# Altium schematic symbol library HarwinConnectors.SchLib: 25 symbols
Pins are listed as number, name and electrical type; pins without a type are passive.

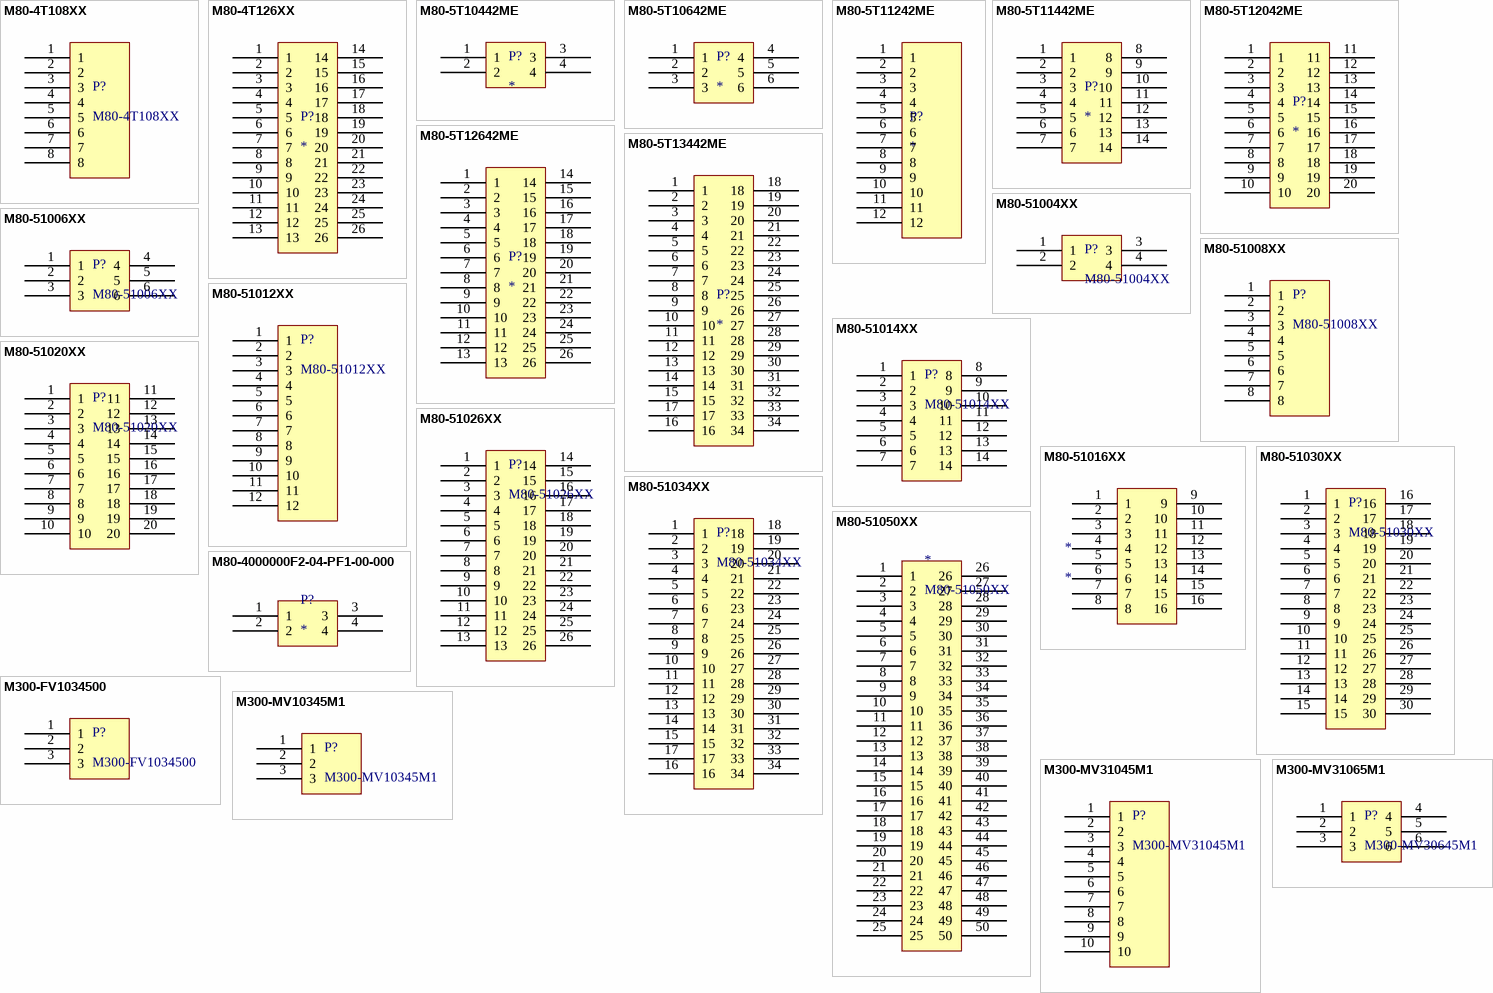
[diagram p0: symbols M80-4T108XX to M300-MV31065M1]

## M80-4T108XX
designator P?
pins: 1, 2, 3, 4, 5, 6, 7, 8

## M80-4T126XX
designator P?
footprint M80-4T126XX
pins: 1, 2, 3, 4, 5, 6, 7, 8, 9, 10, 11, 12, 13, 14, 15, 16, 17, 18, 19, 20, 21, 22, 23, 24, 25, 26

## M80-5T10442ME
designator P?
QTR TURN 2+2 M Vertical 3MM PCB Connector
footprint M80-51004XX (Double Row, 3mm PC Tail connector with 3.5mm board mount jackscrews - 14 contacts (7+7).  Gold finish on contact area, Tin finish on termination. Slotted nuts provided for assembly to panel mount stud.  2.00mm Pitch High-Reliability Datamate connector system.)
pins: 1, 2, 3, 4

## M80-5T10642ME
designator P?
QTR TURN 3+3 WAY M VERT 3MM PCT 101LOK
footprint M80-51006XX (Double Row, 3mm PC Tail connector with 3.5mm board mount jackscrews - 14 contacts (7+7).  Gold finish on contact area, Tin finish on termination. Slotted nuts provided for assembly to panel mount stud.  2.00mm Pitch High-Reliability Datamate connector system.)
pins: 1, 2, 3, 4, 5, 6

## M80-5T11242ME
designator P?
QTR TURN 6 + 6 M VERT 3MM PCB Connector
footprint M80-51012XX (Double Row, 3mm PC Tail connector with 3.5mm board mount jackscrews - 14 contacts (7+7).  Gold finish on contact area, Tin finish on termination. Slotted nuts provided for assembly to panel mount stud.  2.00mm Pitch High-Reliability Datamate connector system.)
pins: 1, 2, 3, 4, 5, 6, 7, 8, 9, 10, 11, 12

## M80-5T11442ME
designator P?
QTR TURN 7 + 7 M VERT 3MM PCB Connector
footprint M80-51014XX (Double Row, 3mm PC Tail connector with 3.5mm board mount jackscrews - 14 contacts (7+7).  Gold finish on contact area, Tin finish on termination. Slotted nuts provided for assembly to panel mount stud.  2.00mm Pitch High-Reliability Datamate connector system.)
pins: 1, 2, 3, 4, 5, 6, 7, 8, 9, 10, 11, 12, 13, 14

## M80-5T12042ME
designator P?
QTR TURN 10+10 M VERT 3MM PCT 101LOK BM
footprint M80-51020XX (Double Row, 3mm PC Tail connector with 3.5mm board mount jackscrews - 14 contacts (7+7).  Gold finish on contact area, Tin finish on termination. Slotted nuts provided for assembly to panel mount stud.  2.00mm Pitch High-Reliability Datamate connector system.)
pins: 1, 2, 3, 4, 5, 6, 7, 8, 9, 10, 11, 12, 13, 14, 15, 16, 17, 18, 19, 20

## M80-5T12642ME
designator P?
QTR TURN 13+13 M VERT 3MM PCT 101LOK BM
footprint M80-51026XX (Double Row, 3mm PC Tail connector with 3.5mm board mount jackscrews - 14 contacts (7+7).  Gold finish on contact area, Tin finish on termination. Slotted nuts provided for assembly to panel mount stud.  2.00mm Pitch High-Reliability Datamate connector system.)
pins: 1, 2, 3, 4, 5, 6, 7, 8, 9, 10, 11, 12, 13, 14, 15, 16, 17, 18, 19, 20, 21, 22, 23, 24, 25, 26

## M80-5T13442ME
designator P?
QTR TURN 17+17 M VERT 3MM PCT 101LOK BM
footprint M80-51034XX (Double Row, 3mm PC Tail connector with 3.5mm board mount jackscrews - 14 contacts (7+7).  Gold finish on contact area, Tin finish on termination. Slotted nuts provided for assembly to panel mount stud.  2.00mm Pitch High-Reliability Datamate connector system.)
pins: 1, 2, 3, 4, 5, 6, 7, 8, 9, 10, 11, 12, 13, 14, 15, 16, 17, 18, 19, 20, 21, 22, 23, 24, 25, 26, 27, 28, 29, 30, 31, 32, 33, 34

## M80-51004XX
designator P?
footprint M80-51004XX (Double Row, 3mm PC Tail connector with 3.5mm board mount jackscrews - 14 contacts (7+7).  Gold finish on contact area, Tin finish on termination. Slotted nuts provided for assembly to panel mount stud.  2.00mm Pitch High-Reliability Datamate connector system.)
pins: 1, 2, 3, 4

## M80-51006XX
designator P?
footprint M80-51006XX (Double Row, 3mm PC Tail connector with 3.5mm board mount jackscrews - 14 contacts (7+7).  Gold finish on contact area, Tin finish on termination. Slotted nuts provided for assembly to panel mount stud.  2.00mm Pitch High-Reliability Datamate connector system.)
pins: 1, 2, 3, 4, 5, 6

## M80-51008XX
designator P?
footprint M80-51008XX (Double Row, 3mm PC Tail connector with 3.5mm board mount jackscrews - 14 contacts (7+7).  Gold finish on contact area, Tin finish on termination. Slotted nuts provided for assembly to panel mount stud.  2.00mm Pitch High-Reliability Datamate connector system.)
pins: 1, 2, 3, 4, 5, 6, 7, 8

## M80-51012XX
designator P?
footprint M80-51012XX (Double Row, 3mm PC Tail connector with 3.5mm board mount jackscrews - 14 contacts (7+7).  Gold finish on contact area, Tin finish on termination. Slotted nuts provided for assembly to panel mount stud.  2.00mm Pitch High-Reliability Datamate connector system.)
pins: 1, 2, 3, 4, 5, 6, 7, 8, 9, 10, 11, 12

## M80-51014XX
designator P?
footprint M80-51014XX (Double Row, 3mm PC Tail connector with 3.5mm board mount jackscrews - 14 contacts (7+7).  Gold finish on contact area, Tin finish on termination. Slotted nuts provided for assembly to panel mount stud.  2.00mm Pitch High-Reliability Datamate connector system.)
pins: 1, 2, 3, 4, 5, 6, 7, 8, 9, 10, 11, 12, 13, 14

## M80-51016XX
designator *
footprint M80-51016XX (Double Row, 3mm PC Tail connector with 3.5mm board mount jackscrews - 14 contacts (7+7).  Gold finish on contact area, Tin finish on termination. Slotted nuts provided for assembly to panel mount stud.  2.00mm Pitch High-Reliability Datamate connector system.)
pins: 1, 2, 3, 4, 5, 6, 7, 8, 9, 10, 11, 12, 13, 14, 15, 16

## M80-51020XX
designator P?
footprint M80-51020XX (Double Row, 3mm PC Tail connector with 3.5mm board mount jackscrews - 14 contacts (7+7).  Gold finish on contact area, Tin finish on termination. Slotted nuts provided for assembly to panel mount stud.  2.00mm Pitch High-Reliability Datamate connector system.)
pins: 1, 2, 3, 4, 5, 6, 7, 8, 9, 10, 11, 12, 13, 14, 15, 16, 17, 18, 19, 20

## M80-51026XX
designator P?
footprint M80-51026XX (Double Row, 3mm PC Tail connector with 3.5mm board mount jackscrews - 14 contacts (7+7).  Gold finish on contact area, Tin finish on termination. Slotted nuts provided for assembly to panel mount stud.  2.00mm Pitch High-Reliability Datamate connector system.)
pins: 1, 2, 3, 4, 5, 6, 7, 8, 9, 10, 11, 12, 13, 14, 15, 16, 17, 18, 19, 20, 21, 22, 23, 24, 25, 26

## M80-51030XX
designator P?
footprint M80-51030XX (Double Row, 3mm PC Tail connector with 3.5mm board mount jackscrews - 14 contacts (7+7).  Gold finish on contact area, Tin finish on termination. Slotted nuts provided for assembly to panel mount stud.  2.00mm Pitch High-Reliability Datamate connector system.)
pins: 1, 2, 3, 4, 5, 6, 7, 8, 9, 10, 11, 12, 13, 14, 15, 16, 17, 18, 19, 20, 21, 22, 23, 24, 25, 26, 27, 28, 29, 30

## M80-51034XX
designator P?
footprint M80-51034XX (Double Row, 3mm PC Tail connector with 3.5mm board mount jackscrews - 14 contacts (7+7).  Gold finish on contact area, Tin finish on termination. Slotted nuts provided for assembly to panel mount stud.  2.00mm Pitch High-Reliability Datamate connector system.)
pins: 1, 2, 3, 4, 5, 6, 7, 8, 9, 10, 11, 12, 13, 14, 15, 16, 17, 18, 19, 20, 21, 22, 23, 24, 25, 26, 27, 28, 29, 30, 31, 32, 33, 34

## M80-51050XX
designator *
footprint M80-51050XX (Double Row, 3mm PC Tail connector with 3.5mm board mount jackscrews - 14 contacts (7+7).  Gold finish on contact area, Tin finish on termination. Slotted nuts provided for assembly to panel mount stud.  2.00mm Pitch High-Reliability Datamate connector system.)
pins: 1, 2, 3, 4, 5, 6, 7, 8, 9, 10, 11, 12, 13, 14, 15, 16, 17, 18, 19, 20, 21, 22, 23, 24, 25, 26, 27, 28, 29, 30, 31, 32, 33, 34, 35, 36, 37, 38, 39, 40, 41, 42, 43, 44, 45, 46, 47, 48, 49, 50

## M80-4000000F2-04-PF1-00-000
designator P?
footprint M80-4000000F2-04-PF1-00-000 (Datamate Mix-Tek Female Vertical Throughboard Connector)
pins: 1, 2, 3, 4

## M300-FV1034500
designator P?
footprint M300-FV1034500
pins: 1, 2, 3

## M300-MV10345M1
designator P?
footprint M300-MV10345M1
pins: 1, 2, 3

## M300-MV31045M1
designator P?
footprint M300-MV31045M1
pins: 1, 2, 3, 4, 5, 6, 7, 8, 9, 10

## M300-MV31065M1
designator P?, comment M300-MV30645M1
footprint M300-MV30645M1
pins: 1, 2, 3, 4, 5, 6